# Altium footprint library FootPrints_SysArossage.PcbLib: 29 footprints (part 2 of 2)
Each footprint in its own frame and in the unit in brackets; x right, y up, seen from the top. Pads: shape width x height; smd on the part's side, far side on the other; paste and mask are expansions set on the pad; w line width, h text height; cw(c..) or ccw(c..) is an arc to the next point about the centre after c.
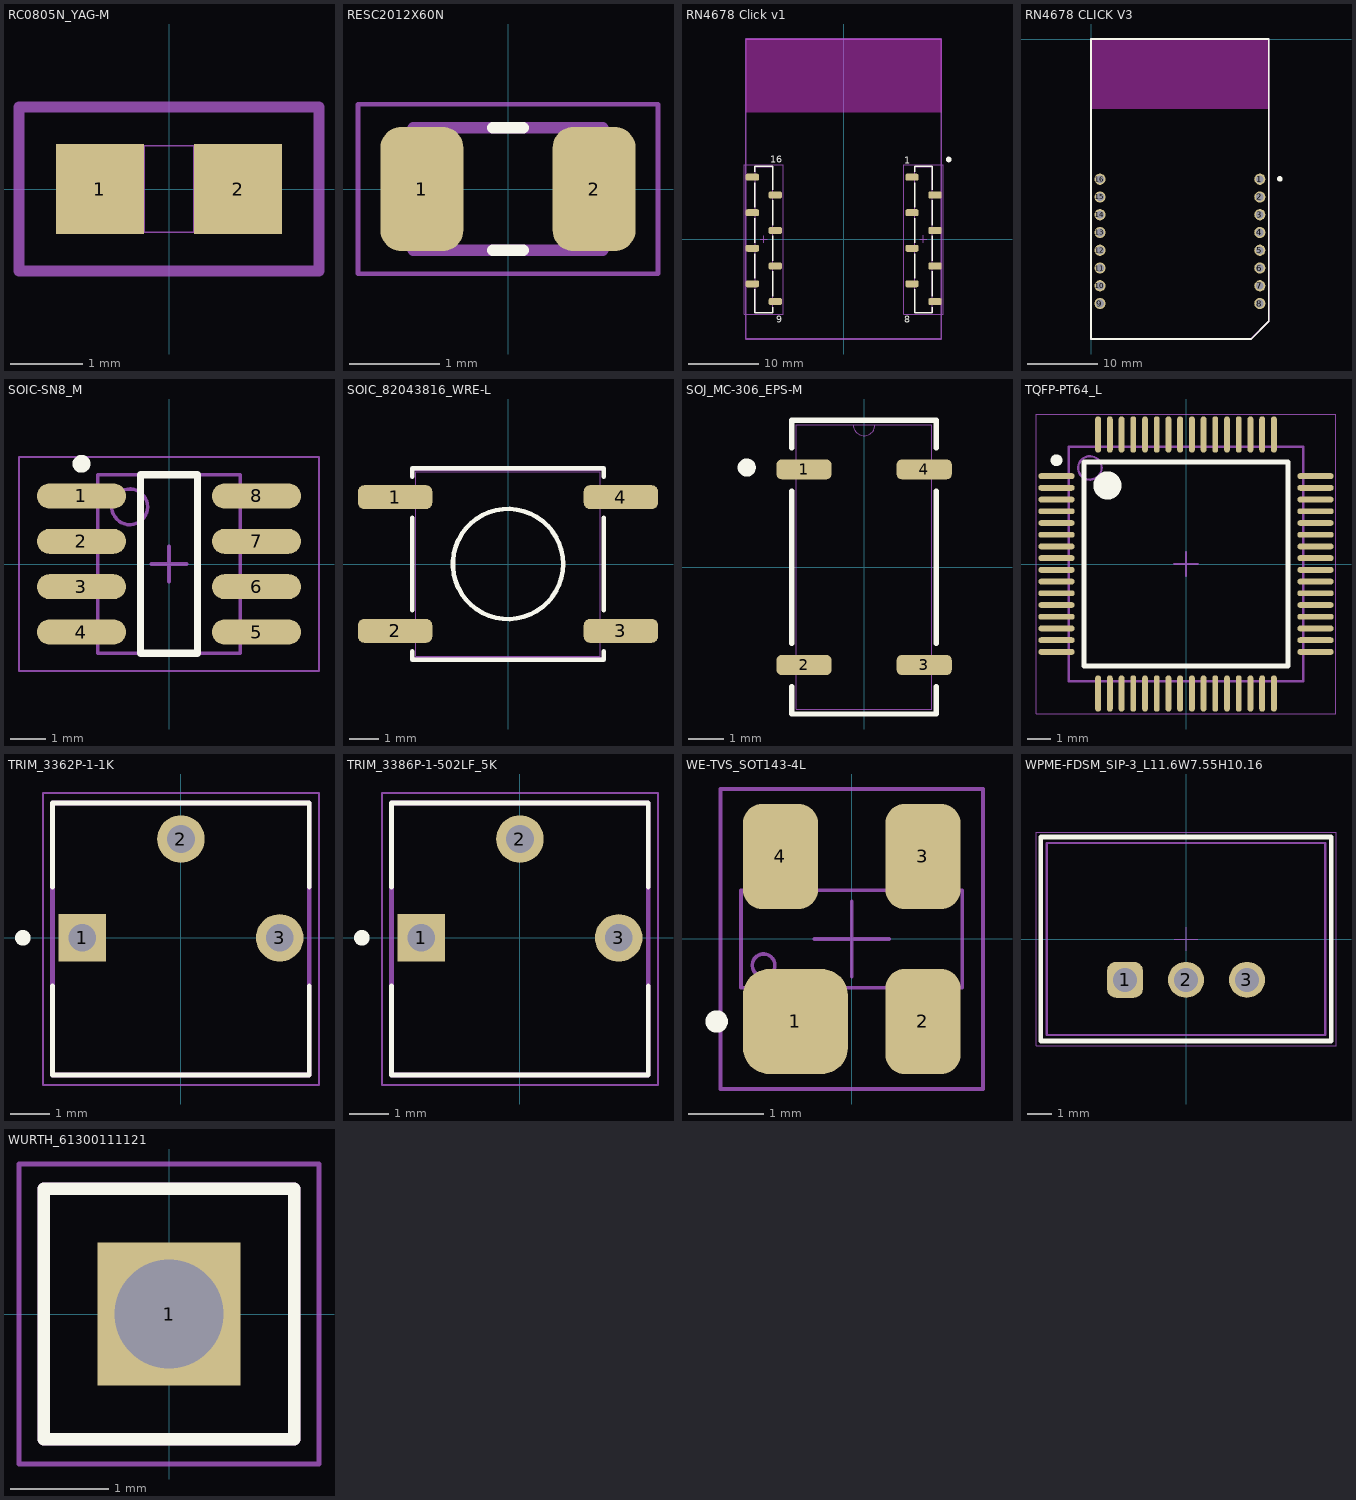
[diagram p1: the footprints below, top view; thin cyan lines are the x and y axes]

## RC0805N_YAG-M [mil]
pads (2):
  rect 48x49 smd paste+0 mask+0: 1(-37.5,0) 2(37.5,0)
Mechanical 13:
  lines w1: -39.5,-23.5 -39.5,23.5 ; -39.5,-23.5 -13.5,-23.5 -13.5,23.5 -39.5,23.5 ; -39.5,-23.5 39.5,-23.5 ; -39.5,-23.5 -39.5,23.5 ; -39.5,23.5 39.5,23.5 ; 39.5,-23.5 13.5,-23.5 13.5,23.5 39.5,23.5 ; 39.5,-23.5 39.5,23.5 ; 39.5,-23.5 39.5,23.5
Mechanical 15:
  lines w6: -81.5,-44.5 81.5,-44.5 81.5,44.5 -81.5,44.5 -81.5,-44.5
3D body "RC0805N_YAG.step": height 27.99, standoff 0, extent -39.49,-23.5 39.49,23.5

## RESC2012X60N [mm]
pads (2):
  rrect50% 0.92x1.38 smd: 1(-0.955,0) 2(0.955,0)
Top Overlay:
  lines w0.127: -0.17,-0.68 0.17,-0.68 ; -0.17,0.68 0.17,0.68
Mechanical 13:
  lines w0.127: -1.05,-0.68 -1.05,0.68 1.05,0.68 1.05,-0.68 -1.05,-0.68
Mechanical 15:
  lines w0.05: -1.665,-0.94 -1.665,0.94 1.665,0.94 1.665,-0.94 -1.665,-0.94
3D body "step_temp.STEP": height 0.6, standoff 0, extent -1,-0.625 1,0.625

## RN4678 Click v1 [mm]
pads (16):
  rrect50% 1.91x1 smd: 1(9.77,8.89) 2(13.06,6.35) 3(9.77,3.81) 4(13.06,1.27) 5(9.77,-1.27) 6(13.06,-3.81) 7(9.77,-6.35) 8(13.06,-8.89) 9(-9.77,-8.89) 10(-13.06,-6.35) 11(-9.77,-3.81) 12(-13.06,-1.27) 13(-9.77,1.27) 14(-13.06,3.81) 15(-9.77,6.35) 16(-13.06,8.89)
Top Overlay:
  circle w0.5: c15.025,11.425 r0.15
  lines w0.2: -12.69,-7.13 -12.69,-10.485 -10.14,-10.485 -10.14,-9.68 ; -12.69,-5.57 -12.69,-2.03 ; -12.69,-0.49 -12.69,3.05 ; -12.69,4.59 -12.69,8.13 ; -12.69,9.68 -12.69,10.485 -10.14,10.485 -10.14,7.13 ; -10.14,-8.13 -10.14,-4.59 ; -10.14,-3.05 -10.14,0.49 ; -10.14,2.03 -10.14,5.57 ; 10.14,-7.13 10.14,-10.485 12.69,-10.485 12.69,-9.68 ; 10.14,-5.57 10.14,-2.03 ; 10.14,-0.49 10.14,3.05 ; 10.14,4.59 10.14,8.13 ; 10.14,9.68 10.14,10.485 12.69,10.485 12.69,7.13 ; 12.69,-8.13 12.69,-4.59 ; 12.69,-3.05 12.69,0.49 ; 12.69,2.03 12.69,5.57
  text "1" at 8.7,10.85 h1.02
  text "8" at 8.7,-11.925 h1.02
  text "16" at -10.471,10.95 h1.02
  text "9" at -9.625,-11.9 h1.02
Keep-Out Layer:
  rectangle: -13.989,18.125 13.975,28.625
Mechanical 1:
  lines w0.254: -0.025,-14.245 -14,-14.245 -14,28.655 13.97,28.655 13.97,-14.245 0,-14.245
Top 3D Body:
  lines w0.1: -12.665,-6.6 -13.44,-6.6 -13.44,-6.1 -12.665,-6.1 ; -12.665,-1.52 -13.44,-1.52 -13.44,-1.02 -12.665,-1.02 ; -12.665,3.56 -13.44,3.56 -13.44,4.06 -12.665,4.06 ; -12.665,8.64 -13.44,8.64 -13.44,9.14 -12.665,9.14 ; -10.165,-9.14 -9.39,-9.14 -9.39,-8.64 -10.165,-8.64 ; -10.165,-4.06 -9.39,-4.06 -9.39,-3.56 -10.165,-3.56 ; -10.165,1.02 -9.39,1.02 -9.39,1.52 -10.165,1.52 ; -10.165,6.1 -9.39,6.1 -9.39,6.6 -10.165,6.6 ; 10.165,-6.6 9.39,-6.6 9.39,-6.1 10.165,-6.1 ; 10.165,-1.52 9.39,-1.52 9.39,-1.02 10.165,-1.02 ; 10.165,3.56 9.39,3.56 9.39,4.06 10.165,4.06 ; 10.165,8.64 9.39,8.64 9.39,9.14 10.165,9.14 ; 12.665,-9.14 13.44,-9.14 13.44,-8.64 12.665,-8.64 ; 12.665,-4.06 13.44,-4.06 13.44,-3.56 12.665,-3.56 ; 12.665,1.02 13.44,1.02 13.44,1.52 12.665,1.52 ; 12.665,6.1 13.44,6.1 13.44,6.6 12.665,6.6 ; -12.665,-10.41 -10.165,-10.41 -10.165,10.41 -12.665,10.41 -12.665,-10.41 ; 10.165,-10.41 10.165,10.41 12.665,10.41 12.665,-10.41 10.165,-10.41
Top Courtyard:
  lines w0.05: -11.915,0 -10.915,0 ; -11.415,-0.5 -11.415,0.5 ; 10.915,0 11.915,0 ; 11.415,-0.5 11.415,0.575 ; -14.215,-10.685 -14.215,10.685 -8.615,10.685 -8.615,-10.685 -14.215,-10.685 ; 8.615,-10.685 14.215,-10.685 14.215,10.685 8.615,10.685 8.615,-10.685
Top Designator:
  text ".Designator" at -10.915,-7.498 h1.5
  text ".Designator" at 11.915,-7.497 h1.5
Top Component Outline:
  lines w0.1: -12.665,-6.6 -13.44,-6.6 -13.44,-6.1 -12.665,-6.1 ; -12.665,-1.52 -13.44,-1.52 -13.44,-1.02 -12.665,-1.02 ; -12.665,3.56 -13.44,3.56 -13.44,4.06 -12.665,4.06 ; -12.665,8.64 -13.44,8.64 -13.44,9.14 -12.665,9.14 ; -10.165,-9.14 -9.39,-9.14 -9.39,-8.64 -10.165,-8.64 ; -10.165,-4.06 -9.39,-4.06 -9.39,-3.56 -10.165,-3.56 ; -10.165,1.02 -9.39,1.02 -9.39,1.52 -10.165,1.52 ; -10.165,6.1 -9.39,6.1 -9.39,6.6 -10.165,6.6 ; 10.165,-6.6 9.39,-6.6 9.39,-6.1 10.165,-6.1 ; 10.165,-1.52 9.39,-1.52 9.39,-1.02 10.165,-1.02 ; 10.165,3.56 9.39,3.56 9.39,4.06 10.165,4.06 ; 10.165,8.64 9.39,8.64 9.39,9.14 10.165,9.14 ; 12.665,-9.14 13.44,-9.14 13.44,-8.64 12.665,-8.64 ; 12.665,-4.06 13.44,-4.06 13.44,-3.56 12.665,-3.56 ; 12.665,1.02 13.44,1.02 13.44,1.52 12.665,1.52 ; 12.665,6.1 13.44,6.1 13.44,6.6 12.665,6.6 ; -12.665,-10.41 -12.665,10.41 -10.165,10.41 -10.165,-10.41 -12.665,-10.41 ; 10.165,-10.41 12.665,-10.41 12.665,10.41 10.165,10.41 10.165,-10.41
3D body "61000813321.stp": height 7.5, standoff 0, extent 9.39,-10.41 13.44,10.41
3D body "61000813321.stp": height 7.5, standoff 0, extent -13.44,-10.41 -9.39,10.41

## RN4678 CLICK V3 [mm]
pads (16):
  round 1.6 hole 1.1: 1(24.13,-20.05) 2(24.13,-22.59) 3(24.13,-25.13) 4(24.13,-27.67) 5(24.13,-30.21) 6(24.13,-32.75) 7(24.13,-35.29) 8(24.13,-37.83) 9(1.27,-37.83) 10(1.27,-35.29) 11(1.27,-32.75) 12(1.27,-30.21) 13(1.27,-27.67) 14(1.27,-25.13) 15(1.27,-22.59) 16(1.27,-20.05)
Top Overlay:
  circle w0.5: c27,-20 r0.15
  lines w0.254: 0,-42.9 0,0 ; 0.018,-42.9 22.878,-42.9 25.418,-40.36 25.418,0 0.018,0
Keep-Out Layer:
  rectangle: 0,-10 25.4,0
Mechanical 1:
  lines w0.254: 0,-42.9 22.86,-42.9 25.4,-40.36 25.4,0 0,0 0,-42.9

## SOIC-SN8_M [mm] "SOIC, 8-Leads, Body 4.9x3.9mm, Pitch 1.27mm, IPC Low Density"
height 1.75
pads (8):
  oval 2.5x0.7 smd: 1(-2.45,1.905) 2(-2.45,0.635) 3(-2.45,-0.635) 4(-2.45,-1.905) 5(2.45,-1.905) 6(2.45,-0.635) 7(2.45,0.635) 8(2.45,1.905)
Top Overlay:
  circle w0.25: c-2.45,2.805 r0.125
  lines w0.2: -0.8,-2.5 0.8,-2.5 0.8,2.5 -0.8,2.5 -0.8,-2.5
Mechanical 13:
  circle w0.1: c-1.1,1.6 r0.5
  lines w0.1: -2,-2.5 2,-2.5 2,2.5 -2,2.5 -2,-2.5
Mechanical 15:
  lines w0.05: -4.2,-3 4.2,-3 4.2,3 -4.2,3 -4.2,-3
  lines w0.1: -0.5,0 0.5,0 ; 0,-0.5 0,0.5
3D body "SOIC8-N_MC_MCH.step": height 1.76, standoff 0, extent -2.997,-2.451 2.997,2.451

## SOIC_82043816_WRE-L [mm]
pads (4):
  rrect50% 2.5x0.8 smd paste+0 mask+0: 1(-3.797,2.25) 2(-3.797,-2.25) 3(3.797,-2.25) 4(3.797,2.25)
Top Overlay:
  circle w0.152: c0,0 r1.854
  lines w0.152: -3.226,-2.938 -3.226,-3.226 3.226,-3.226 3.226,-2.938 ; -3.226,-1.562 -3.226,1.562 ; -3.226,2.938 -3.226,3.226 3.226,3.226 3.226,2.938 ; 3.226,-1.562 3.226,1.562
  text "." at -5.7,2.1 h1
Mechanical 13:
  circle w0: c0,0 r1.854
  lines w0.025: -4.597,-2.606 -3.099,-2.606 -3.099,-1.894 -4.597,-1.894 -4.597,-2.606 ; -4.597,1.894 -3.099,1.894 -3.099,2.606 -4.597,2.606 -4.597,1.894 ; -3.099,-3.099 -3.099,3.099 3.099,3.099 3.099,-3.099 -3.099,-3.099 ; 3.099,-2.606 4.597,-2.606 4.597,-1.894 3.099,-1.894 3.099,-2.606 ; 3.099,1.894 4.597,1.894 4.597,2.606 3.099,2.606 3.099,1.894
Mechanical 15:
  lines w0.152: -3.2,-3.2 3.2,-3.2 ; -3.2,3.2 3.2,3.2
3D body "430182043816_Download_STP_430182043816_rev1.stp": height 4.3, standoff 0, extent -4.5,-3.1 4.5,3.1

## SOJ_MC-306_EPS-M [mil]
pads (4):
  rrect50% 61x22 smd paste+0 mask+0: 1(-66.5,108.27) 2(-66.5,-108.27) 3(66.5,-108.27) 4(66.5,108.27)
Top Overlay:
  circle w10: c-129.92,110.24 r5
  lines w6: -80,-132.37 -80,-162.5 80,-162.5 80,-132.37 ; -80,-84.17 -80,84.17 ; -80,132.37 -80,162.5 80,162.5 80,132.37 ; 80,-84.17 80,84.17
Mechanical 13:
  lines w0: -12,157.5 ccw(c0,157.5) 12,157.5
  lines w1: -75,-157.5 -75,157.5 75,157.5 75,-157.5 -75,-157.5 ; -75,-118.27 -75,-98.27 -75,-118.27 ; -75,98.27 -75,118.27 -75,98.27 ; 75,-118.27 75,-98.27 75,-118.27 ; 75,98.27 75,118.27 75,98.27
3D body "SOJ_MC-306_EPS.step": height 67.09, standoff 0.11, extent -75,-160 75,154.96

## TQFP-PT64_L [mm] "Thin QFP, 64-Leads, Body 10x10mm, Pitch 0.5mm, IPC High Density"
height 1.2
pads (64):
  oval 1.55x0.25 smd: 1(-5.525,3.75) 2(-5.525,3.25) 3(-5.525,2.75) 4(-5.525,2.25) 5(-5.525,1.75) 6(-5.525,1.25) 7(-5.525,0.75) 8(-5.525,0.25) 9(-5.525,-0.25) 10(-5.525,-0.75) 11(-5.525,-1.25) 12(-5.525,-1.75) 13(-5.525,-2.25) 14(-5.525,-2.75) 15(-5.525,-3.25) 16(-5.525,-3.75) 33(5.525,-3.75) 34(5.525,-3.25) 35(5.525,-2.75) 36(5.525,-2.25) 37(5.525,-1.75) 38(5.525,-1.25) 39(5.525,-0.75) 40(5.525,-0.25) 41(5.525,0.25) 42(5.525,0.75) 43(5.525,1.25) 44(5.525,1.75) 45(5.525,2.25) 46(5.525,2.75) 47(5.525,3.25) 48(5.525,3.75)
  oval 0.25x1.55 smd: 17(-3.75,-5.525) 18(-3.25,-5.525) 19(-2.75,-5.525) 20(-2.25,-5.525) 21(-1.75,-5.525) 22(-1.25,-5.525) 23(-0.75,-5.525) 24(-0.25,-5.525) 25(0.25,-5.525) 26(0.75,-5.525) 27(1.25,-5.525) 28(1.75,-5.525) 29(2.25,-5.525) 30(2.75,-5.525) 31(3.25,-5.525) 32(3.75,-5.525) 49(3.75,5.525) 50(3.25,5.525) 51(2.75,5.525) 52(2.25,5.525) 53(1.75,5.525) 54(1.25,5.525) 55(0.75,5.525) 56(0.25,5.525) 57(-0.25,5.525) 58(-0.75,5.525) 59(-1.25,5.525) 60(-1.75,5.525) 61(-2.25,5.525) 62(-2.75,5.525) 63(-3.25,5.525) 64(-3.75,5.525)
Top Overlay:
  circle w0.6: c-3.35,3.35 r0.3
  circle w0.25: c-5.525,4.425 r0.125
  lines w0.2: -4.35,-4.35 4.35,-4.35 4.35,4.35 -4.35,4.35 -4.35,-4.35
Mechanical 13:
  circle w0.1: c-4.1,4.1 r0.5
  lines w0.1: -5,-5 5,-5 5,5 -5,5 -5,-5
Mechanical 15:
  lines w0.05: -6.4,-6.4 6.4,-6.4 6.4,6.4 -6.4,6.4 -6.4,-6.4
  lines w0.1: -0.5,0 0.5,0 ; 0,-0.5 0,0.5
3D body "TQFP64_10x10MC_MCH.step": height 1.2, standoff 0, extent -6,-6 6,6

## TRIM_3362P-1-1K [mm]
pads (3):
  rect 1.222x1.222 hole 0.714: 1(-2.54,0)
  round 1.222 hole 0.714: 2(0,2.54) 3(2.54,0)
Top Overlay:
  circle w0.2: c-4.064,0 r0.1
  lines w0.127: -3.3,-3.53 3.3,-3.53 ; -3.3,-3.52 -3.3,-1.235 ; -3.3,1.305 -3.3,3.47 3.3,3.47 3.3,1.305 ; 3.3,-3.52 3.3,-1.235
Mechanical 13:
  lines w0.127: -3.3,-3.53 -3.3,3.47 3.3,3.47 3.3,-3.53 -3.3,-3.53
Mechanical 15:
  lines w0.05: -3.55,-3.78 -3.55,3.72 3.55,3.72 3.55,-3.78 -3.55,-3.78
3D body "3362P-1-102LF.step": height 4.88, standoff -5.84, extent -3.3,-3.495 3.3,3.495

## TRIM_3386P-1-502LF_5K [mm]
pads (3):
  rect 1.222x1.222 hole 0.714: 1(-2.54,0)
  round 1.222 hole 0.714: 2(0,2.54) 3(2.54,0)
Top Overlay:
  circle w0.2: c-4.064,0 r0.1
  lines w0.127: -3.3,-3.53 3.3,-3.53 ; -3.3,-3.52 -3.3,-1.235 ; -3.3,1.305 -3.3,3.47 3.3,3.47 3.3,1.305 ; 3.3,-3.52 3.3,-1.235
Mechanical 13:
  lines w0.127: -3.3,-3.53 3.3,-3.53 3.3,3.47 -3.3,3.47 -3.3,-3.53
Mechanical 15:
  lines w0.05: -3.55,-3.78 3.55,-3.78 3.55,3.72 -3.55,3.72 -3.55,-3.78
3D body "3386P-1-502LF.STEP": height 4.83, standoff -6.86, extent -4.763,-4.763 4.763,4.763

## WE-TVS_SOT143-4L [mm] "TVS Diode, package SOT143-4L"
height 1.2
pads (4):
  rrect50% 1.4x1.4 smd: 1(-0.75,-1.1)
  rrect50% 1x1.4 smd: 2(0.95,-1.1) 3(0.95,1.1) 4(-0.95,1.1)
Top Overlay:
  circle w0.15: c-1.8,-1.1 r0.075
Top 3D Body:
  circle w0.05: c-1.175,-0.35 r0.15
  lines w0.05: -1.162,-0.65 -1.162,-1.2 -0.337,-1.2 -0.337,-0.65 ; -1.162,0.65 -1.162,1.2 -0.738,1.2 -0.738,0.65 ; 0.737,-0.65 0.737,-1.2 1.162,-1.2 1.162,-0.65 ; 0.737,0.65 0.737,1.2 1.162,1.2 1.162,0.65 ; -1.475,-0.65 1.475,-0.65 1.475,0.65 -1.475,0.65 -1.475,-0.65
Top Courtyard:
  lines w0.05: -0.5,0 0.5,0 ; 0,-0.5 0,0.5 ; -1.75,-2 1.75,-2 1.75,2 -1.75,2 -1.75,-2
Top Designator:
  text ".Designator" at -3.499,-0.233 h0.7
Top Component Outline:
  circle w0.05: c-1.175,-0.35 r0.15
  lines w0.05: -1.162,-0.65 -1.162,-1.2 -0.337,-1.2 -0.337,-0.65 ; -1.162,0.65 -1.162,1.2 -0.738,1.2 -0.738,0.65 ; 0.737,-0.65 0.737,-1.2 1.162,-1.2 1.162,-0.65 ; 0.737,0.65 0.737,1.2 1.162,1.2 1.162,0.65 ; -1.475,-0.65 -1.475,0.65 1.475,0.65 1.475,-0.65 -1.475,-0.65
3D body "STEP-WE-TVS-HS-SOT143-4L-rev1.stp": height 1.05, standoff -0.01, extent -1.46,-1.2 1.46,1.2

## WPME-FDSM_SIP-3_L11.6W7.55H10.16 [mm] "Fixed Step Down Regulator Module, SIP-3, body 11.60x7.55mm"
height 10.16
pads (3):
  rrect50% 1.5x1.5 hole 1: 1(-2.54,-1.7)
  round 1.5 hole 1: 2(0,-1.7) 3(2.54,-1.7)
Top Overlay:
  lines w0.2: -6.05,-4.25 6.05,-4.25 6.05,4.25 -6.05,4.25 -6.05,-4.25
Top 3D Body:
  lines w0.1: -5.8,-4 -5.8,4 5.8,4 5.8,-4 -5.8,-4
Top Courtyard:
  lines w0.05: -0.5,0 0.5,0 ; 0,-0.5 0,0.5 ; -6.25,-4.45 -6.25,4.45 6.25,4.45 6.25,-4.45 -6.25,-4.45
Top Designator:
  text ".Designator" at -7.498,-0.5 h1.5
Top Component Outline:
  lines w0.1: -5.8,-4 -5.8,4 5.8,4 5.8,-4 -5.8,-4
3D body "173010535.stp": height 10.5, standoff -4, extent -5.8,-4 5.8,4

## WURTH_61300111121 [mm]
pads (1):
  rect 1.45x1.45 / inner round 1.45 / far side rect 1.45x1.45 hole 1.1 mask+0.05: 1(0,0)
Top Overlay:
  lines w0.127: -1.27,-1.27 -1.27,1.27 1.27,1.27 1.27,-1.27 -1.27,-1.27
Mechanical 13:
  lines w0.127: -1.27,-1.27 -1.27,1.27 1.27,1.27 1.27,-1.27 -1.27,-1.27
Mechanical 15:
  lines w0.05: -1.52,-1.52 -1.52,1.52 1.52,1.52 1.52,-1.52 -1.52,-1.52
3D body "61300111121_Download_STP_61300111121_rev1.stp": height 8.52, standoff -3.02, extent -1.27,-1.27 1.27,1.27